# EAGLE library part ADUM5000 (library lib_stankus)
Analog Devices ADUM5000 isolated DCDC
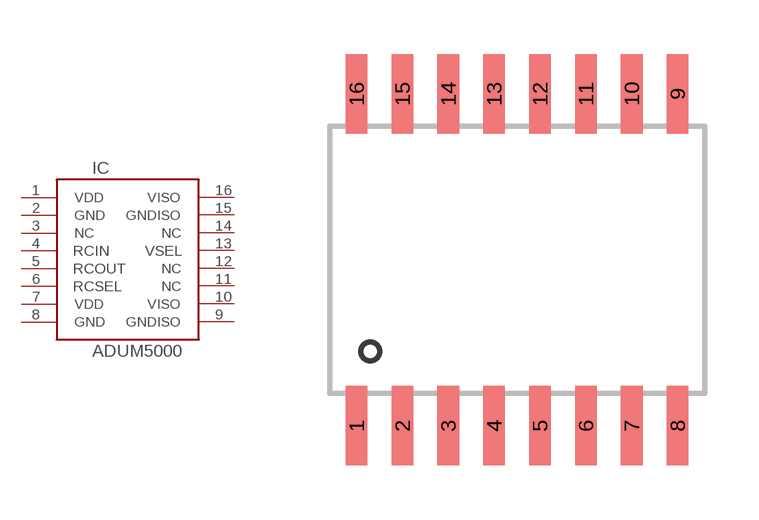
[diagram p17: symbol with the pads of SO16W; footprint SO16W]

Designator prefix IC

## ADUM5000-SO16W  [SO16W]
1  VDD  pas
2  GND  pas
3  NC  nc
4  RCIN  pas
5  RCOUT  pas
6  RCSEL  pas
7  VDD  pas
8  GND  pas
9  GNDISO  pas
10  VISO  pas
11  NC  nc
12  NC  nc
13  VSEL  pas
14  NC  nc
15  GNDISO  pas
16  VISO  pas

## Footprint SO16W (pad centres in mm)
SO16W
smd 0.6 x 2.2: 1 -4.445,-4.6; 2 -3.175,-4.6; 3 -1.905,-4.6; 4 -0.635,-4.6; 5 0.635,-4.6; 6 1.905,-4.6; 7 3.175,-4.6; 8 4.445,-4.6; 9 4.445,4.6; 10 3.175,4.6; 11 1.905,4.6; 12 0.635,4.6; 13 -0.635,4.6; 14 -1.905,4.6; 15 -3.175,4.6; 16 -4.445,4.6